# EAGLE library part ADG70* (library OSSI)
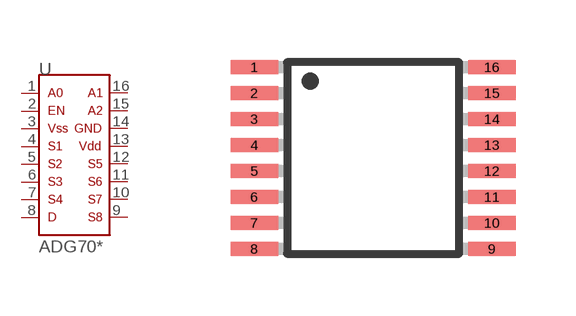
[diagram p35: symbol with the pads of TSSOP16-RU; footprint TSSOP16-RU]

Designator prefix U

## ADG708  [TSSOP16-RU]
1  P$1  in
2  P$2  in
3  P$3  pwr
4  P$4  in
5  P$5  in
6  P$6  in
7  P$7  in
8  P$8  out
9  P$9  in
10  P$10  in
11  P$11  in
12  P$12  in
13  P$13  pwr
14  P$14  pwr
15  P$15  in
16  P$16  in

## Footprint TSSOP16-RU (pad centres in mm)
16-Lead Thin Shrink Small Outline Package [TSSOP] (RU-16) Source: 8x ADG1408_1409.pdf
smd 1.19 x 0.36: 1 -2.97,2.275; 2 -2.97,1.625; 3 -2.97,0.975; 4 -2.97,0.325; 5 -2.97,-0.325; 6 -2.97,-0.975; 7 -2.97,-1.625; 8 -2.97,-2.275; 9 2.97,-2.275; 10 2.97,-1.625; 11 2.97,-0.975; 12 2.97,-0.325; 13 2.97,0.325; 14 2.97,0.975; 15 2.97,1.625; 16 2.97,2.275